# Altium footprint library RATA_LIB.PcbLib: 17 footprints (part 1 of 2)
Each footprint in its own frame and in the unit in brackets; x right, y up, seen from the top. Pads: shape width x height; smd on the part's side, far side on the other; paste and mask are expansions set on the pad; w line width, h text height; cw(c..) or ccw(c..) is an arc to the next point about the centre after c.
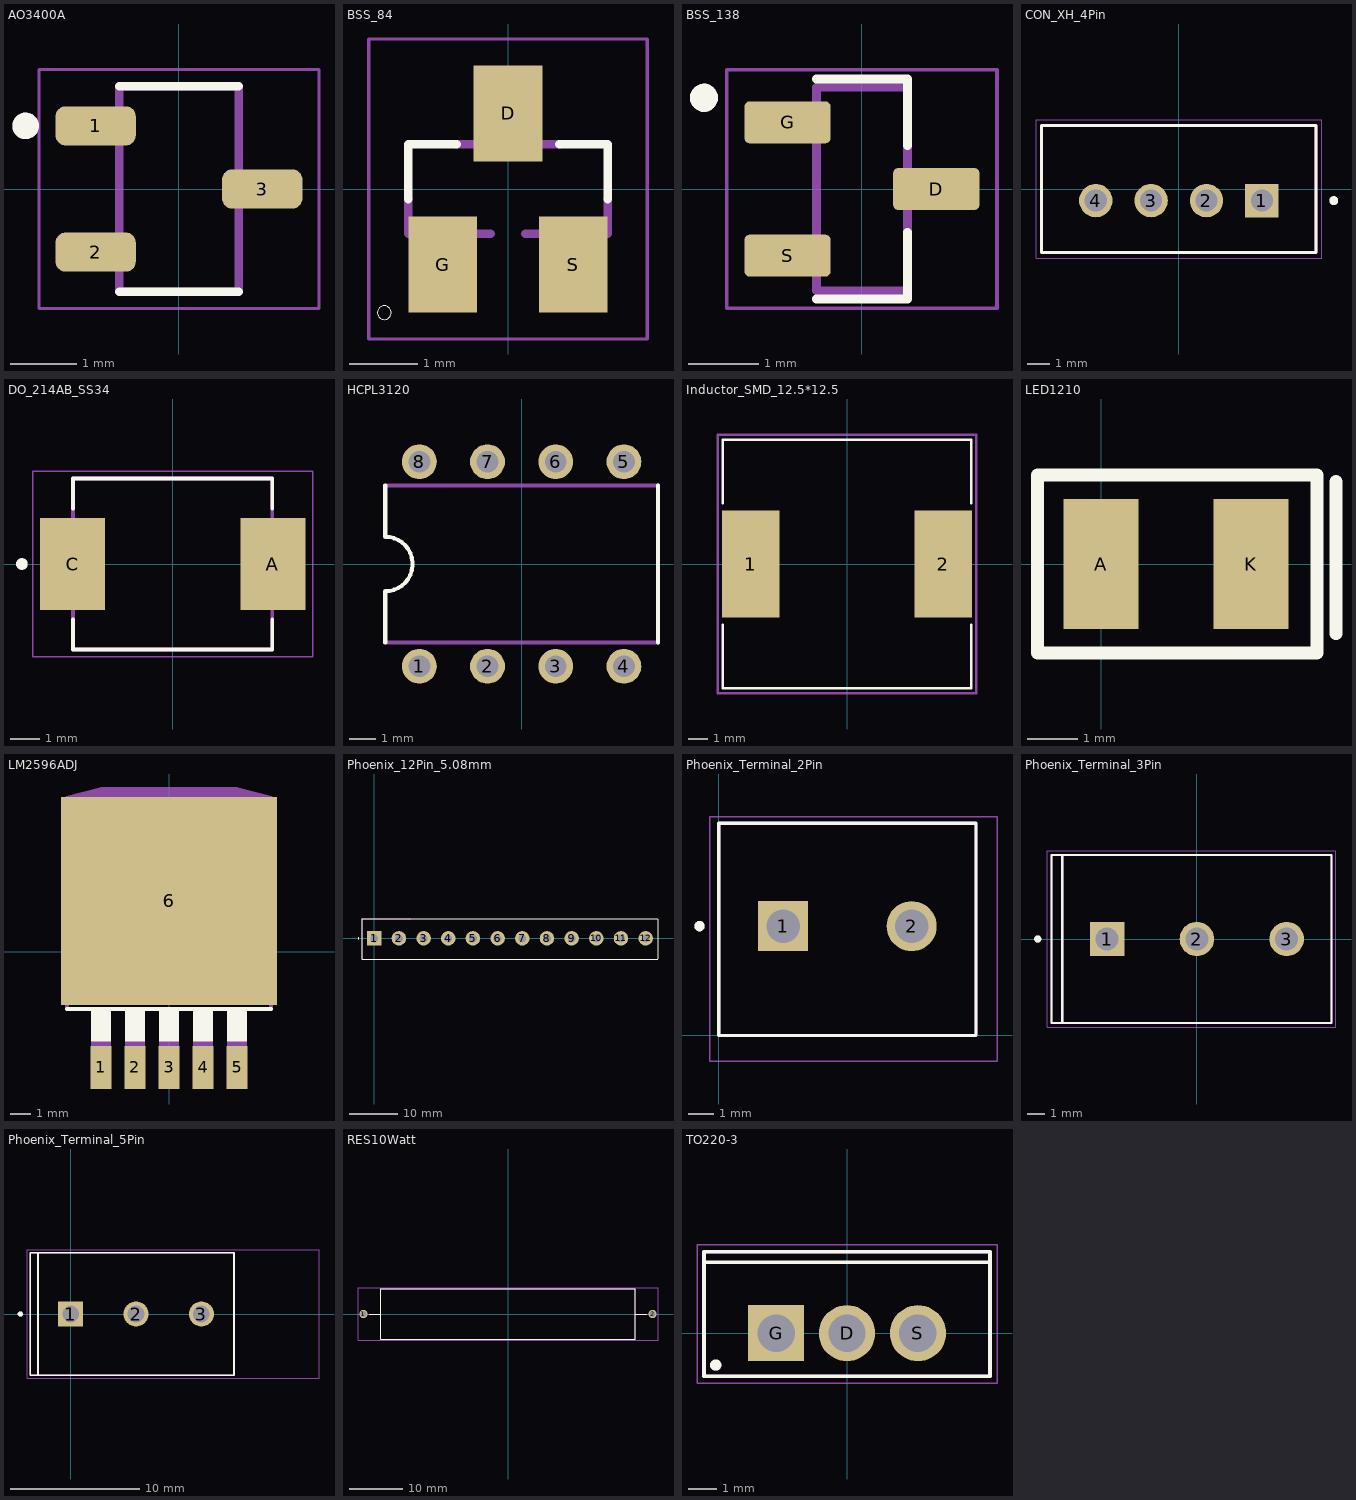
[diagram p0: the footprints below, top view; thin cyan lines are the x and y axes]

## AO3400A [mm]
pads (3):
  rrect50% 1.21x0.59 smd: 1(-1.255,0.95) 2(-1.255,-0.95) 3(1.255,0)
Top Overlay:
  circle w0.2: c-2.31,0.95 r0.1
  lines w0.127: -0.9,-1.55 0.9,-1.55 ; -0.9,1.55 0.9,1.55
Mechanical 13:
  circle w0.2: c-2.31,0.95 r0.1
  lines w0.127: -0.9,-1.55 0.9,-1.55 0.9,1.55 -0.9,1.55 -0.9,-1.55
Mechanical 15:
  lines w0.05: -2.11,-1.8 2.11,-1.8 2.11,1.8 -2.11,1.8 -2.11,-1.8
3D body "AO3400A--3DModel-STEP-269445.STEP": height 1.25, standoff 0, extent -1.4,-1.45 1.4,1.45

## BSS_84 [mm]
pads (3):
  rect 1x1.4 smd: D(0,1.1) G(-0.95,-1.1) S(0.95,-1.1)
Top Overlay:
  circle w0: c-1.8,-1.8 r0.1
  lines w0.127: -1.45,-0.15 -1.45,0.65 -0.75,0.65 ; 0.75,0.65 1.45,0.65 1.45,-0.15
Mechanical 13:
  region: 0.229,0.711 -0.229,0.711 -0.229,1.295 0.229,1.295
  region: 1.168,-1.298 0.713,-1.298 0.713,-0.711 1.168,-0.711
  region: -0.711,-1.297 -1.17,-1.297 -1.17,-0.711 -0.711,-0.711
  lines w0.127: -1.45,-0.15 -1.45,-0.65 -0.25,-0.65 ; -0.75,0.65 0.75,0.65 ; 0.25,-0.65 1.45,-0.65 1.45,-0.15
Mechanical 15:
  lines w0.051: -2.023,-2.183 2.023,-2.183 2.023,2.183 -2.023,2.183 -2.023,-2.183
3D body "BSS84.STEP": height 1.14, standoff 0, extent -1.45,-1.2 1.45,1.2

## BSS_138 [mm]
pads (3):
  rrect25% 1.23x0.6 smd: D(1.06,0) G(-1.06,0.95) S(-1.06,-0.95)
Top Overlay:
  circle w0.2: c-2.25,1.3 r0.1
  lines w0.127: -0.65,-1.57 0.65,-1.57 0.65,-0.62 ; -0.65,1.57 0.65,1.57 0.65,0.62
Mechanical 13:
  circle w0.2: c-2.25,1.3 r0.1
  lines w0.127: -0.65,-1.45 -0.65,1.45 0.65,1.45 0.65,-1.45 -0.65,-1.45
Mechanical 15:
  lines w0.05: -1.925,-1.7 1.925,-1.7 1.925,1.7 -1.925,1.7 -1.925,-1.7
3D body "BSS138.STEP": height 1.11, standoff 0, extent -1.2,-1.45 1.2,1.45

## CON_XH_4Pin [mm]
height 7
pads (4):
  rect 1.508x1.508 / inner round 1.508 / far side rect 1.508x1.508 hole 1: 1(3.75,-0.525)
  round 1.508 hole 1: 2(1.25,-0.525) 3(-1.25,-0.525) 4(-3.75,-0.525)
Top Overlay:
  circle w0.2: c7,-0.525 r0.1
  lines w0.127: -6.2,-2.875 -6.2,2.875 6.2,2.875 6.2,-2.875 -6.2,-2.875
Mechanical 13:
  circle w0.2: c7,-0.525 r0.1
  lines w0.127: -6.2,-2.875 -6.2,2.875 6.2,2.875 6.2,-2.875 -6.2,-2.875
Mechanical 15:
  lines w0.05: -6.45,-3.125 -6.45,3.125 6.45,3.125 6.45,-3.125 -6.45,-3.125
3D body "step_temp.STEP": height 7, standoff -3.4, extent -6.2,-2.875 6.2,2.875

## DO_214AB_SS34 [mm]
height 2.65
pads (2):
  rect 2.25x3.18 smd: A(3.455,0) C(-3.455,0)
Top Overlay:
  circle w0.2: c-5.2,0 r0.1
  lines w0.127: -3.437,-1.91 -3.437,-2.95 3.437,-2.95 3.437,-1.91 ; -3.437,1.91 -3.437,2.95 3.437,2.95 3.437,1.91
Mechanical 13:
  circle w0.2: c-5.2,0 r0.1
  lines w0.127: -3.437,-2.95 3.437,-2.95 3.437,2.95 -3.437,2.95 -3.437,-2.95
Mechanical 15:
  lines w0.05: -4.83,-3.2 -4.83,3.2 4.83,3.2 4.83,-3.2 -4.83,-3.2
3D body "step_temp.STEP": height 2.65, standoff 0, extent -3.975,-2.95 3.975,2.95

## HCPL3120 [mm] "Single Channel Gate Driver"
pads (8):
  round 1.3 hole 0.813: 1(-3.81,-3.81) 2(-1.27,-3.81) 3(1.27,-3.81) 4(3.81,-3.81) 5(3.81,3.81) 6(1.27,3.81) 7(-1.27,3.81) 8(-3.81,3.81)
Top Overlay:
  lines w0.152: -5.08,-2.921 -5.08,-1.016 ccw(c-5.08,0) -5.08,1.016 -5.08,2.921 ; 5.08,-2.921 5.08,2.921
Mechanical 13:
  lines w0.152: -5.08,-2.921 5.08,-2.921 ; -5.08,2.921 5.08,2.921
3D body "HCPL-3120.STEP": height 4.96, standoff -2.95, extent -4.885,-3.81 4.885,3.81

## Inductor_SMD_12.5*12.5 [mm]
pads (2):
  rect 2.9x5.4 smd: 1(-4.85,0) 2(4.85,0)
Top Overlay:
  lines w0.127: -6.25,-3.05 -6.25,-6.25 6.25,-6.25 6.25,-3.05 ; -6.25,3.05 -6.25,6.25 6.25,6.25 6.25,3.05
Mechanical 15:
  lines w0.127: -6.5,-6.5 -6.5,6.5 6.5,6.5 6.5,-6.5 -6.5,-6.5
3D body "6934619.stp": height 6, standoff 0, extent -6.25,-6.25 6.25,6.25

## LED1210 [mm] "LED1210"
pads (2):
  rect 1.5x2.6 smd: A(0,0) K(3,0)
Top Overlay:
  lines w0.254: 4.699,-1.397 4.699,1.651 ; -1.27,-1.778 -1.27,1.778 4.318,1.778 4.318,-1.778 -1.27,-1.778
3D body "led-1210-2835-yellow.step": height 0.95, standoff -1.15, extent -0.351,-1.527 3.349,1.473

## LM2596ADJ [mil]
pads (6):
  rect 42x85 smd: 1(-134,-228) 2(-67,-228) 3(0,-228) 4(67,-228) 5(134,-228)
  rect 425.2x409.84 smd: 6(0,100)
Top Overlay:
  region: -115,-176 -153,-176 -153,-110 -115,-110
  region: -48,-176 -86,-176 -86,-110 -48,-110
  region: 19,-176 -19,-176 -19,-110 19,-110
  region: 86,-176 48,-176 48,-110 86,-110
  region: 153,-176 115,-176 115,-110 153,-110
  lines w8: -200.55,-113.39 200.55,-113.39
Mechanical 13:
  region: -115,-260 -153,-260 -153,-175 -115,-175
  region: -48,-260 -86,-260 -86,-175 -48,-175
  region: 19,-260 -19,-260 -19,-175 19,-175
  region: 86,-260 48,-260 48,-175 86,-175
  region: 153,-260 115,-260 115,-175 153,-175
  region: 201,302.29 201,286.1 -201,286.1 -201,302.29 -133,320.29 133,320.29
  lines w8: -200.55,-113.39 -200.55,282.09 200.55,282.09 200.55,-113.39 ; -200.98,286.1 -200.98,302.28 -132.99,320.28 132.99,320.28 200.98,302.28 200.98,286.1 -200.98,286.1
3D body "LM2596-ADJ--3DModel-STEP-510211.STEP": height 183.07, standoff -5.91, extent -200,-260.48 200,304.48

## PCBComponent_1 [mm]

## Phoenix_12Pin_5.08mm [mm]
pads (12):
  rect 3x3 hole 1.6: 1(0,0)
  round 3 hole 1.6: 2(5.08,0) 3(10.16,0) 4(15.24,0) 5(20.32,0) 6(25.4,0) 7(30.48,0) 8(35.56,0) 9(40.64,0) 10(45.72,0) 11(50.8,0) 12(55.88,0)
Top Overlay:
  circle w0.2: c-3.25,0 r0.1
  lines w0.127: 58.38,4 -2.5,4 -2.5,-4.25 58.381,-4.25 ; 58.42,-4.191 58.42,3.937
Mechanical 13:
  circle w0.2: c-3.25,0 r0.1
  lines w0.127: 7.5,-4.25 -2.5,-4.25 -2.5,4 7.5,4

## Phoenix_Terminal_2Pin [mm]
height 11.45
pads (2):
  rect 1.95x1.95 / inner round 1.95 / far side rect 1.95x1.95 hole 1.3: 1(2.5,4.25)
  round 1.95 hole 1.3: 2(7.5,4.25)
Top Overlay:
  circle w0.2: c-0.75,4.25 r0.1
  lines w0.127: 0,0 10,0 10,8.25 0,8.25 0,0
Mechanical 13:
  circle w0.2: c-0.75,4.25 r0.1
  lines w0.127: 0,0 10,0 10,8.25 0,8.25 0,0
Mechanical 15:
  lines w0.05: -0.35,-1 -0.35,8.5 10.82,8.5 10.82,-1 -0.35,-1
3D body "pxc_1711725_04_00_MKDS-3-2-5-08_3D.stp": height 18.3, standoff -5, extent -0.539,-1.147 10.191,10.033

## Phoenix_Terminal_3Pin [mm]
height 15
pads (3):
  rect 1.95x1.95 / inner round 1.95 / far side rect 1.95x1.95 hole 1.3: 1(-5.08,0)
  round 1.95 hole 1.3: 2(0,0) 3(5.08,0)
Top Overlay:
  circle w0.2: c-9,0 r0.1
  lines w0.127: -7.62,-4.75 -8.22,-4.75 -8.22,4.75 -7.62,4.75 ; -7.62,-4.75 7.62,-4.75 7.62,4.75 -7.62,4.75 ; -7.62,-4.75 -7.62,4.75
Mechanical 13:
  circle w0.2: c-9,0 r0.1
  lines w0.127: -7.62,-4.75 -8.22,-4.75 -8.22,4.75 -7.62,4.75 ; -7.62,-4.75 -7.62,4.75 ; -7.62,-4.75 7.62,-4.75 7.62,4.75 -7.62,4.75
Mechanical 15:
  lines w0.05: -8.47,-5 -8.47,5 7.87,5 7.87,-5 -8.47,-5
3D body "step_temp.STEP": height 15.15, standoff -3.7, extent -8.19,-4.75 7.62,4.75

## Phoenix_Terminal_5Pin [mm]
pads (3):
  rect 1.95x1.95 / inner round 1.95 / far side rect 1.95x1.95 hole 1.3: 1(0,0)
  round 1.95 hole 1.3: 2(5.08,0) 3(10.16,0)
Top Overlay:
  circle w0.2: c-3.92,0 r0.1
  lines w0.127: -2.54,-4.75 -2.54,4.75 ; -2.54,-4.75 12.7,-4.75 12.7,4.75 -2.54,4.75 ; -2.54,-4.75 -3.14,-4.75 -3.14,4.75 -2.54,4.75
Mechanical 13:
  circle w0.2: c-3.92,0 r0.1
  lines w0.127: -2.54,-4.75 12.7,-4.75 12.7,-2.375 12.7,2.375 12.7,4.75 -2.54,4.75 ; -2.54,-4.75 -2.54,4.75 ; -2.54,-4.75 -3.14,-4.75 -3.14,4.75 -2.54,4.75
Mechanical 15:
  lines w0.05: -3.39,-5 19.304,-5 19.304,5 -3.39,5 -3.39,-5
3D body "step_temp.STEP": height 15.15, standoff -3.7, extent -3.11,-4.75 12.7,4.75

## RES10Watt [mm] "Ressitor 10 Watt THD"
pads (2):
  round 1.575 hole 1.05: 1(-27.3,0) 2(27.3,0)
Top Overlay:
  lines w0.127: -26.193,0 -24,0 ; 26.193,0 24,0 ; -24,0 -24,-4.75 24,-4.75 24,0 ; -24,0 -24,4.75 24,4.75 24,0
Mechanical 13:
  lines w0.127: -27.3,0 -24,0 ; 27.3,0 24,0 ; -24,0 -24,-4.75 24,-4.75 24,0 ; -24,0 -24,4.75 24,4.75 24,0
Mechanical 15:
  lines w0.05: -28.337,-5 -28.337,5 28.337,5 28.337,-5 -28.337,-5

## TO220-3 [mm]
height 19.89
pads (3):
  round 2.01 hole 1.34: D(0,0) S(2.54,0)
  rect 2.01x2.01 / inner round 2.01 / far side rect 2.01x2.01 hole 1.34: G(-2.54,0)
Top Overlay:
  circle w0.2: c-4.699,-1.143 r0.1
  lines w0.127: -5.12,2.54 5.12,2.54 ; -5.12,-1.538 5.12,-1.538 5.12,2.907 -5.12,2.907 -5.12,-1.538
Mechanical 13:
  lines w0.127: -5.12,-1.538 -5.12,2.907 5.12,2.907 5.12,-1.538 -5.12,-1.538
  lines w0.2: -4.799,-1.14 ccw(c-4.699,-1.143) -4.599,-1.143
Mechanical 15:
  lines w0.05: -5.37,-1.787 -5.37,3.157 5.37,3.157 5.37,-1.787 -5.37,-1.787
3D body "step_temp.STEP": height 19.89, standoff -10.36, extent -5.118,-1.537 5.118,2.908